# Altium footprint library WE-PD-1260.PcbLib: 1 footprints
Each footprint in its own frame and in the unit in brackets; x right, y up, seen from the top. Pads: shape width x height; smd on the part's side, far side on the other; paste and mask are expansions set on the pad; w line width, h text height; cw(c..) or ccw(c..) is an arc to the next point about the centre after c.
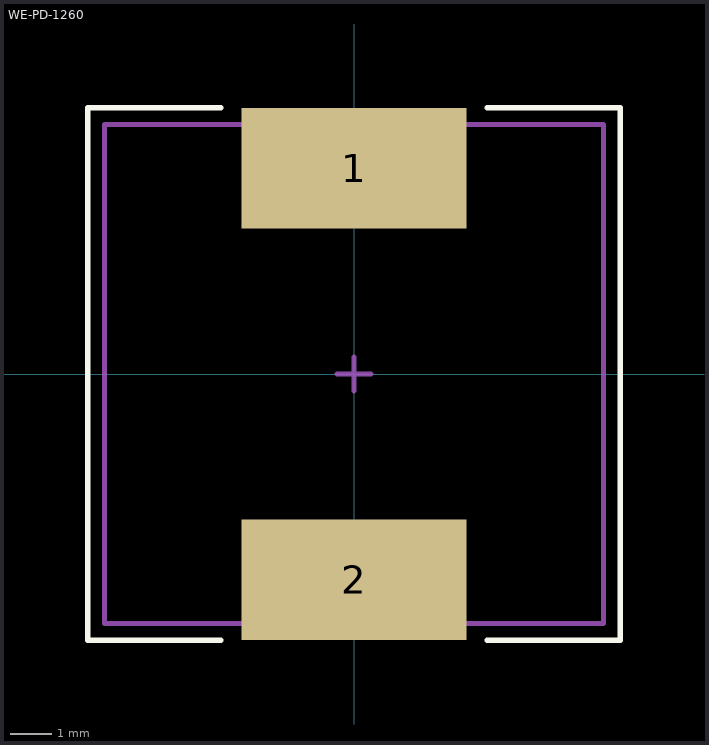
[diagram p0: the footprint, top view; thin cyan lines are the x and y axes]

## WE-PD-1260 [mm]
pads (2):
  rect 5.4x2.9 smd mask+0.1: 1(0,4.95) 2(0,-4.95)
Top Overlay:
  lines w0.127: -3.2,-6.4 -6.4,-6.4 -6.4,6.4 -3.2,6.4 ; 3.2,-6.4 6.4,-6.4 6.4,6.4 3.2,6.4
Mechanical 13:
  lines w0.127: -6,-6 -6,6 6,6 6,-6 -6,-6
Mechanical 15:
  lines w0.127: -0.4,0 0,0 ; 0,-0.4 0,0 ; 0,0.4 0,0 ; 0.4,0 0,0
3D body "Download_WE-PD_1260_STP (rev1).stp": height 5.66, standoff 0, extent -6,-6 6,6